# Altium footprint library 常用元件封裝庫(pcb).PCBLIB: 67 footprints (part 1 of 5)
Each footprint in its own frame and in the unit in brackets; x right, y up, seen from the top. Pads: shape width x height; smd on the part's side, far side on the other; paste and mask are expansions set on the pad; w line width, h text height; cw(c..) or ccw(c..) is an arc to the next point about the centre after c.
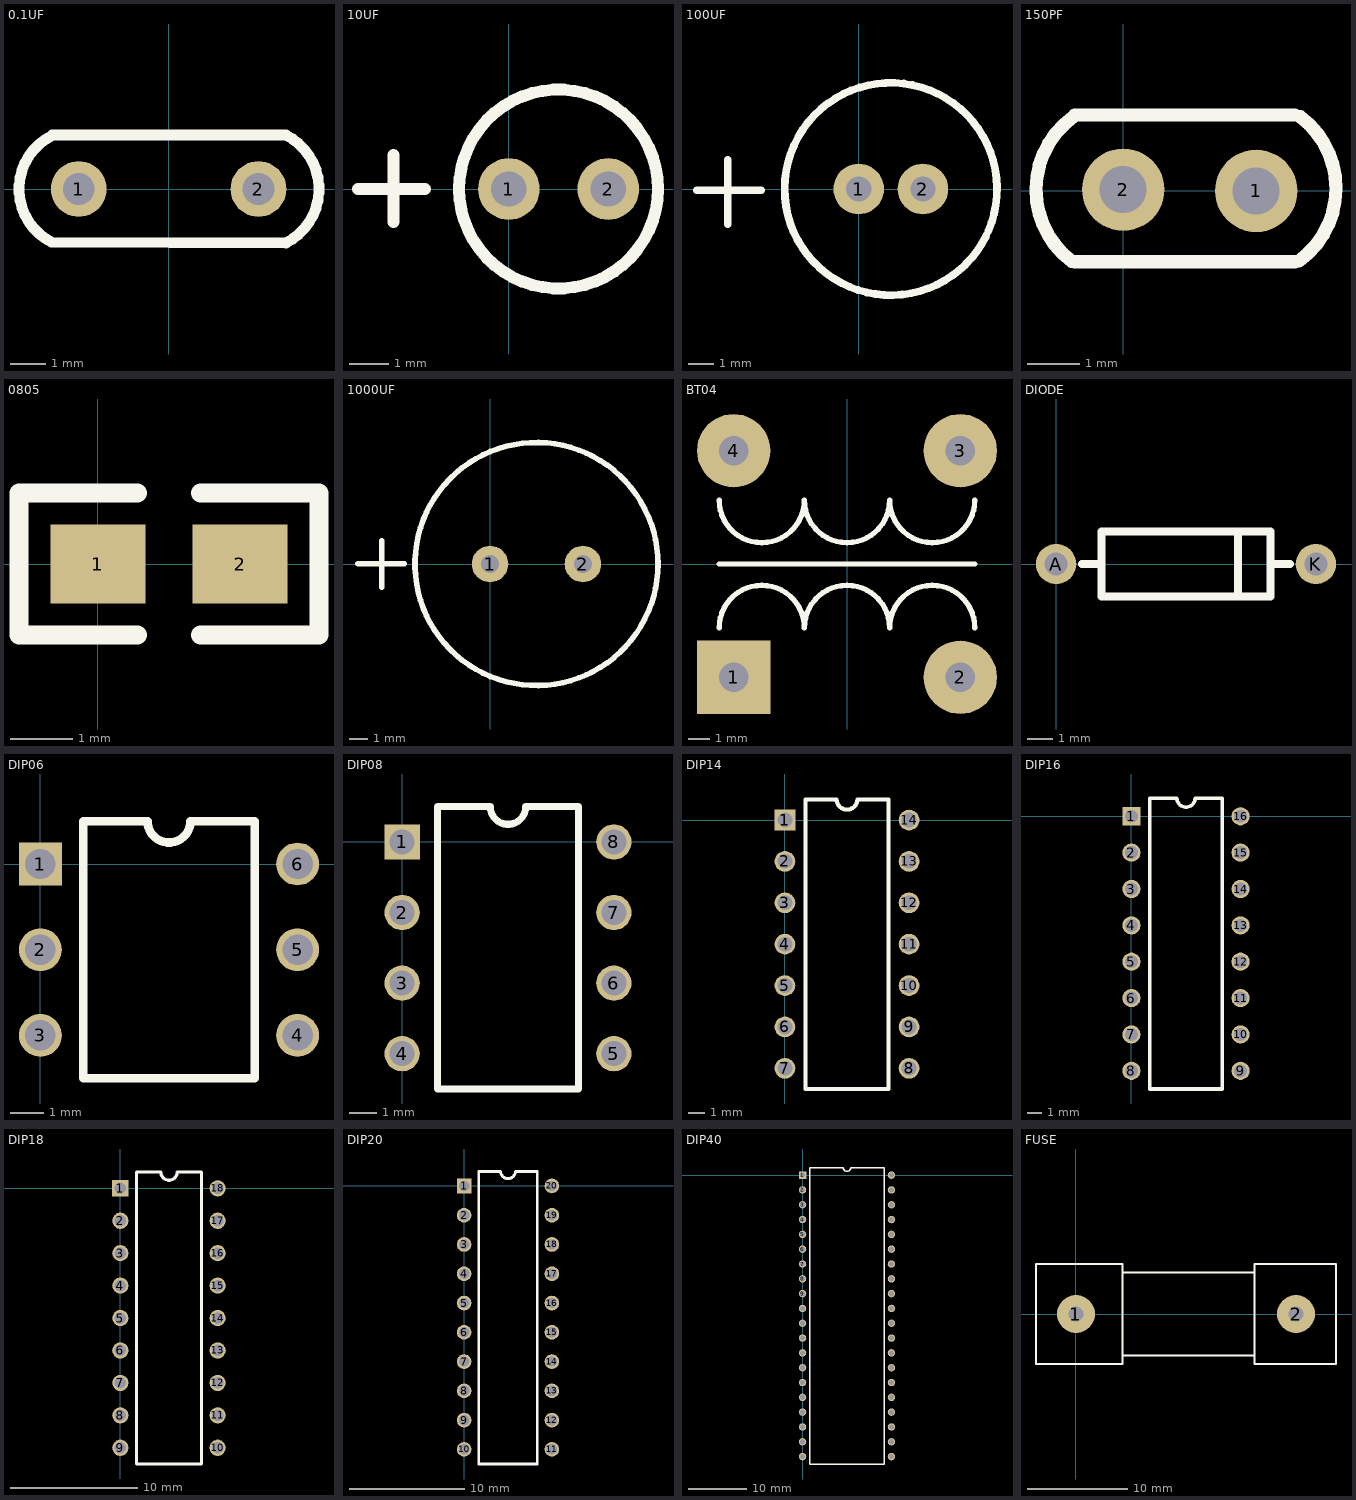
[diagram p0: the footprints below, top view; thin cyan lines are the x and y axes]

## 0.1UF [mil]
pads (2):
  round 62 hole 35.43: 1(-100,0) 2(100,0)
Top Overlay:
  lines w12: -130.04,59.28 ccw(c-100,0) -130.04,-59.28 130.54,-59.99 ccw(c100,0) 130.54,59.99 -129.42,60.22

## 10UF [mil]
pads (2):
  round 62 hole 35.43: 1(0,0) 2(100,0)
Top Overlay:
  circle w12: c50,0 r100
  lines w12: -151.69,0 -84.17,0 ; -115.87,-33.27 -115.87,34.25

## 100UF [mm]
pads (2):
  round 2 hole 1: 1(0,0) 2(2.54,0)
Top Overlay:
  lines w0.305: -6.395,-0.05 -3.855,-0.05 ; -5.175,-1.395 -5.175,1.145 ; 5.049,-1.834 cw(c1.27,0) 5.129,-1.658

## 150PF [mil]
pads (2):
  round 62 hole 35.43: 1(100,0) 2(0,1)
Top Overlay:
  lines w10: -38.7,-52.9 cw(c1.97,1) -37.75,55.6 ; -36.42,-53.15 128.94,-53.15 ; -36.42,57.09 128.94,57.09 ; 132.24,-52.64 ccw(c92.52,1.95) 133.18,55.85

## 0805 [mil]
pads (2):
  rect 60x50 smd: 1(0,0) 2(90,0)
Top Overlay:
  lines w12: 25,-45 -50,-45 -50,45 25,45 ; 65,-45 140,-45 140,45 65,45

## 1000UF [mm]
pads (2):
  round 2 hole 1: 1(0,0) 2(5.08,0)
Top Overlay:
  circle w0.305: c2.54,0 r6.65
  lines w0.305: -7.227,0.025 -4.687,0.025 ; -5.927,-1.27 -5.927,1.27

## BT04 [mm]
pads (4):
  rect 3.5x3.5 hole 1.4: 1(-5.4,-5.4)
  round 3.5 hole 1.4: 2(5.4,-5.4) 3(5.4,5.4) 4(-5.4,5.4)
Top Overlay:
  lines w0.254: -6.096,-3.048 cw(c-4.064,-3.048) -2.032,-3.048 cw(c0,-3.048) 2.032,-3.048 cw(c4.064,-3.048) 6.096,-3.048 ; -6.096,0 6.096,0 ; -6.096,3.048 ccw(c-4.064,3.048) -2.032,3.048 ccw(c0,3.048) 2.032,3.048 ccw(c4.064,3.048) 6.096,3.048

## DIODE [mil]
pads (2):
  round 62 hole 35.43: A(0,0) K(400,0)
Top Overlay:
  lines w12: 40,0 70,0 ; 280,-50 280,50 ; 330,0 360,0 ; 70,-50 70,50 330,50 330,-50 70,-50

## DIP06 [mm]
pads (6):
  rect 1.27x1.27 hole 0.9: 1(0,0)
  round 1.27 hole 0.9: 2(0,-2.54) 3(0,-5.08) 4(7.62,-5.08) 5(7.62,-2.54) 6(7.62,0)
Top Overlay:
  lines w0.254: 1.27,-6.35 1.27,1.27 3.175,1.27 ccw(c3.81,1.27) 4.445,1.27 6.35,1.27 6.35,-6.35 1.27,-6.35

## DIP08 [mm]
pads (8):
  rect 1.27x1.27 hole 0.9: 1(0,0)
  round 1.27 hole 0.9: 2(0,-2.54) 3(0,-5.08) 4(0,-7.62) 5(7.62,-7.62) 6(7.62,-5.08) 7(7.62,-2.54) 8(7.62,0)
Top Overlay:
  lines w0.254: 1.27,-8.89 1.27,1.27 3.175,1.27 ccw(c3.81,1.27) 4.445,1.27 6.35,1.27 6.35,-8.89 1.27,-8.89

## DIP14 [mm]
pads (14):
  rect 1.27x1.27 hole 0.9: 1(0,0)
  round 1.27 hole 0.9: 2(0,-2.54) 3(0,-5.08) 4(0,-7.62) 5(0,-10.16) 6(0,-12.7) 7(0,-15.24) 8(7.62,-15.24) 9(7.62,-12.7) 10(7.62,-10.16) 11(7.62,-7.62) 12(7.62,-5.08) 13(7.62,-2.54) 14(7.62,0)
Top Overlay:
  lines w0.254: 1.27,-16.51 1.27,1.27 3.175,1.27 ccw(c3.81,1.27) 4.445,1.27 6.35,1.27 6.35,-16.51 1.27,-16.51

## DIP16 [mm]
pads (16):
  rect 1.27x1.27 hole 0.9: 1(0,0)
  round 1.27 hole 0.9: 2(0,-2.54) 3(0,-5.08) 4(0,-7.62) 5(0,-10.16) 6(0,-12.7) 7(0,-15.24) 8(0,-17.78) 9(7.62,-17.78) 10(7.62,-15.24) 11(7.62,-12.7) 12(7.62,-10.16) 13(7.62,-7.62) 14(7.62,-5.08) 15(7.62,-2.54) 16(7.62,0)
Top Overlay:
  lines w0.254: 1.27,-19.05 1.27,1.27 3.175,1.27 ccw(c3.81,1.27) 4.445,1.27 6.35,1.27 6.35,-19.05 1.27,-19.05

## DIP18 [mm]
pads (18):
  rect 1.27x1.27 hole 0.9: 1(0,0)
  round 1.27 hole 0.9: 2(0,-2.54) 3(0,-5.08) 4(0,-7.62) 5(0,-10.16) 6(0,-12.7) 7(0,-15.24) 8(0,-17.78) 9(0,-20.32) 10(7.62,-20.32) 11(7.62,-17.78) 12(7.62,-15.24) 13(7.62,-12.7) 14(7.62,-10.16) 15(7.62,-7.62) 16(7.62,-5.08) 17(7.62,-2.54) 18(7.62,0)
Top Overlay:
  lines w0.254: 1.27,-21.59 6.35,-21.59 6.35,1.27 4.445,1.27 cw(c3.81,1.27) 3.175,1.27 1.27,1.27 1.27,-21.59

## DIP20 [mm]
pads (20):
  rect 1.27x1.27 hole 0.9: 1(0,0)
  round 1.27 hole 0.9: 2(0,-2.54) 3(0,-5.08) 4(0,-7.62) 5(0,-10.16) 6(0,-12.7) 7(0,-15.24) 8(0,-17.78) 9(0,-20.32) 10(0,-22.86) 11(7.62,-22.86) 12(7.62,-20.32) 13(7.62,-17.78) 14(7.62,-15.24) 15(7.62,-12.7) 16(7.62,-10.16) 17(7.62,-7.62) 18(7.62,-5.08) 19(7.62,-2.54) 20(7.62,0)
Top Overlay:
  lines w0.254: 1.27,-24.13 6.35,-24.13 6.35,1.27 4.445,1.27 cw(c3.81,1.27) 3.175,1.27 1.27,1.27 1.27,-24.13

## DIP40 [mm]
pads (40):
  rect 1.27x1.27 hole 0.9: 1(0,0)
  round 1.27 hole 0.9: 2(0,-2.54) 3(0,-5.08) 4(0,-7.62) 5(0,-10.16) 6(0,-12.7) 7(0,-15.24) 8(0,-17.78) 9(0,-20.32) 10(0,-22.86) 11(0,-25.4) 12(0,-27.94) 13(0,-30.48) 14(0,-33.02) 15(0,-35.56) 16(0,-38.1) 17(0,-40.64) 18(0,-43.18) 19(0,-45.72) 20(0,-48.26) 21(15.24,-48.26) 22(15.24,-45.72) 23(15.24,-43.18) 24(15.24,-40.64) 25(15.24,-38.1) 26(15.24,-35.56) 27(15.24,-33.02) 28(15.24,-30.48) 29(15.24,-27.94) 30(15.24,-25.4) 31(15.24,-22.86) 32(15.24,-20.32) 33(15.24,-17.78) 34(15.24,-15.24) 35(15.24,-12.7) 36(15.24,-10.16) 37(15.24,-7.62) 38(15.24,-5.08) 39(15.24,-2.54) 40(15.24,0)
Top Overlay:
  lines w0.254: 1.27,-49.53 13.97,-49.53 13.97,1.27 8.255,1.27 cw(c7.62,1.27) 6.985,1.27 1.27,1.27 1.27,-49.53

## FUSE [mm]
pads (2):
  round 3.81 hole 1.5: 1(0,0) 2(22,0)
Top Overlay:
  lines w0.203: 4.636,-4.136 17.844,-4.136 ; 4.636,4.136 17.844,4.136 ; -4,-5 -4,5 4.636,5 4.636,-5 -4,-5 ; 17.844,-5 17.844,5 26,5 26,-5 17.844,-5